# Altium footprint library EC200U-PCB.PcbLib: 36 footprints (part 1 of 3)
Each footprint in its own frame and in the unit in brackets; x right, y up, seen from the top. Pads: shape width x height; smd on the part's side, far side on the other; paste and mask are expansions set on the pad; w line width, h text height; cw(c..) or ccw(c..) is an arc to the next point about the centre after c.
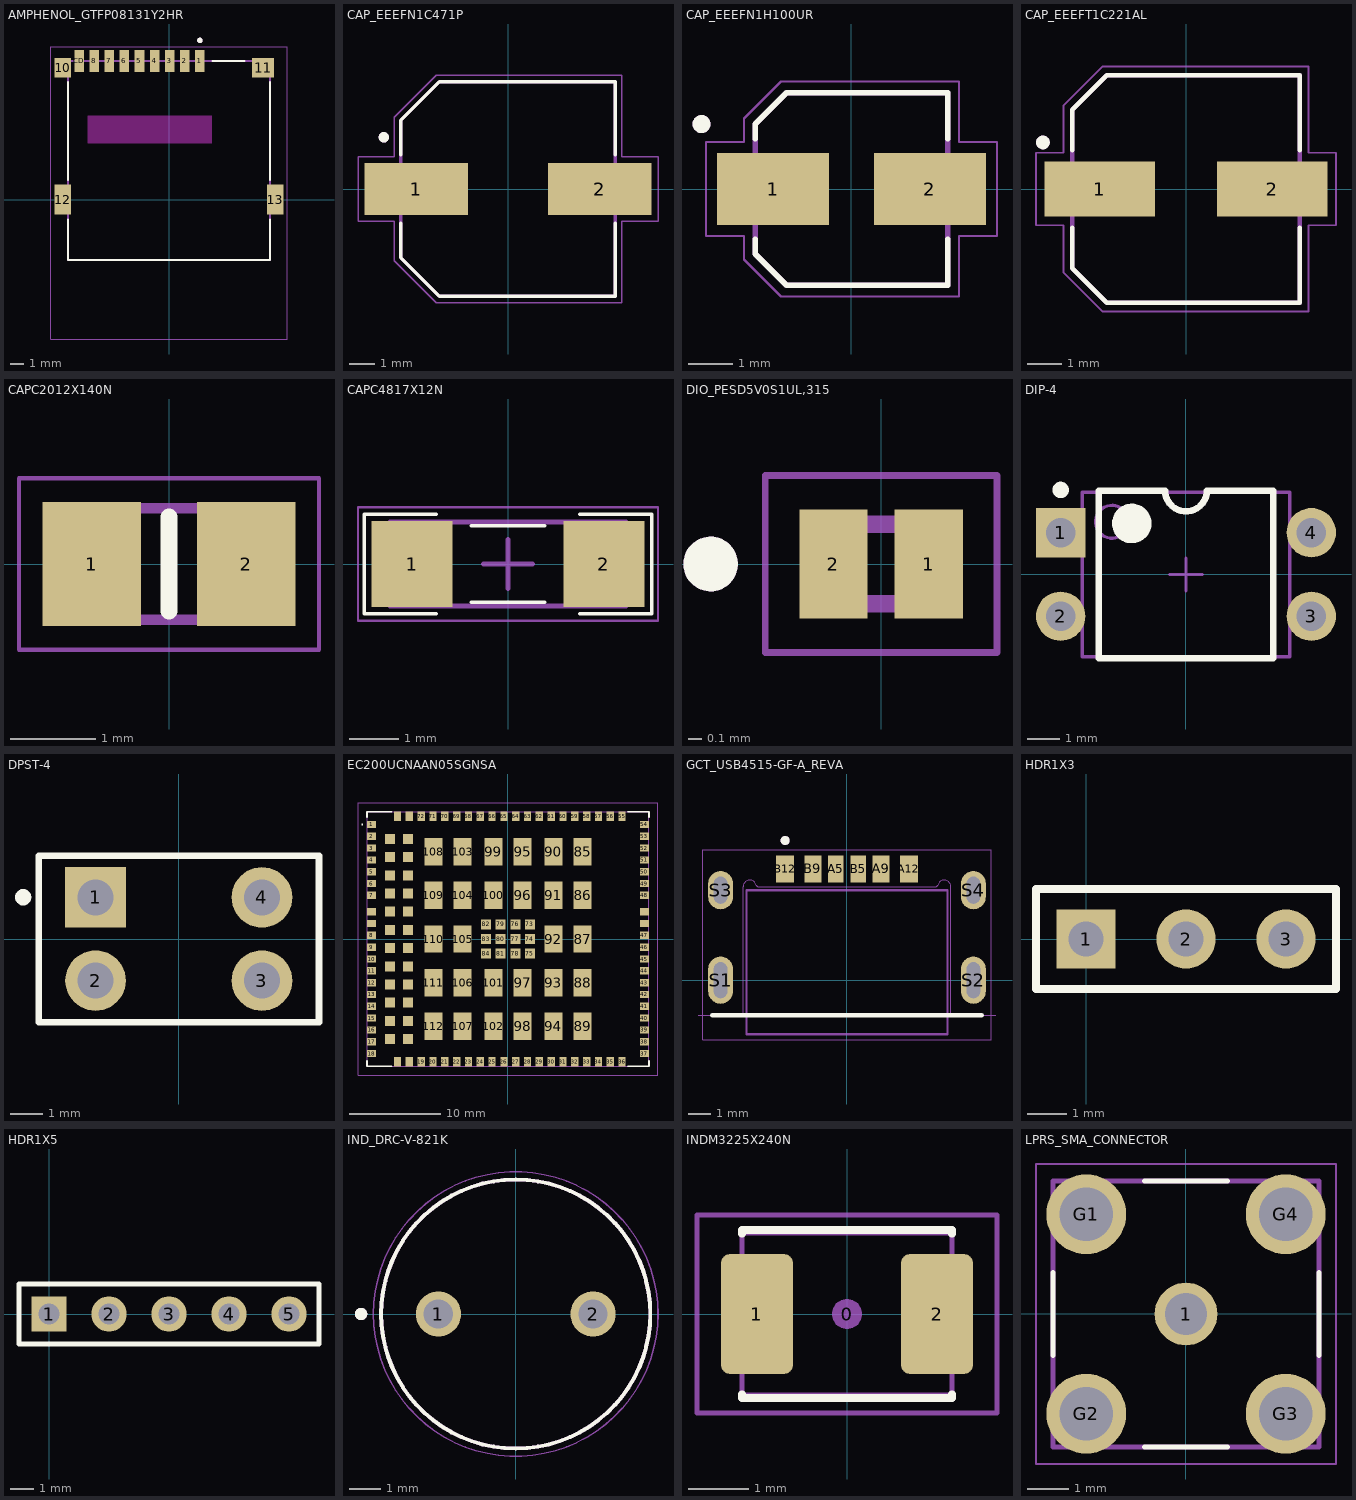
[diagram p0: the footprints below, top view; thin cyan lines are the x and y axes]

## AMPHENOL_GTFP08131Y2HR [mm]
pads (13):
  rect 0.7x1.6 smd: 1(2.25,10.1) 2(1.15,10.1) 3(0.05,10.1) 4(-1.05,10.1) 5(-2.15,10.1) 6(-3.25,10.1) 7(-4.35,10.1) 8(-5.45,10.1) CD(-6.55,10.1)
  rect 1.2x1.4 smd: 10(-7.75,9.6)
  rect 1.6x1.4 smd: 11(6.85,9.6)
  rect 1.2x2.2 smd: 12(-7.75,0) 13(7.75,0)
Top Overlay:
  circle w0.2: c2.25,11.6 r0.1
  lines w0.127: -7.35,-1.42 -7.35,-4.4 7.35,-4.4 7.35,-1.42 ; -7.35,1.42 -7.35,8.58 ; 3.15,10.1 5.5,10.1 ; 7.35,1.42 7.35,8.58
Keep-Out Layer:
  region: 3.1,4.1 -5.9,4.1 -5.9,6.1 3.1,6.1
Mechanical 13:
  circle w0.2: c2.25,11.6 r0.1
  lines w0.127: -7.35,-4.4 -7.35,10.1 7.35,10.1 7.35,-4.4 -7.35,-4.4
Mechanical 15:
  lines w0.05: -8.6,-10.15 8.6,-10.15 8.6,11.15 -8.6,11.15 -8.6,-10.15
3D body "step_temp.STEP": height 1.9, standoff 0, extent -8.05,-4.4 8.05,10.6

## CAP_EEEFN1C471P [mm]
pads (2):
  rect 4x2 smd: 1(-3.55,0) 2(3.55,0)
Top Overlay:
  circle w0.2: c-4.8,2 r0.1
  lines w0.127: -4.15,-1.32 -4.15,-2.65 -2.65,-4.15 4.15,-4.15 4.15,-1.32 ; -4.15,1.32 -4.15,2.65 -2.65,4.15 4.15,4.15 4.15,1.32
Mechanical 13:
  circle w0.2: c-4.8,2 r0.1
  lines w0.127: -4.15,-2.65 -2.65,-4.15 4.15,-4.15 4.15,4.15 -2.65,4.15 -4.15,2.65 -4.15,-2.65
Mechanical 15:
  lines w0.05: -5.8,-1.25 -5.8,1.25 -4.4,1.25 -4.4,2.775 -2.775,4.4 4.4,4.4 4.4,1.25 5.8,1.25 5.8,-1.25 4.4,-1.25 4.4,-4.4 -2.775,-4.4 -4.4,-2.775 -4.4,-1.25 -5.8,-1.25
3D body "step_temp.STEP": height 10.2, standoff 0, extent -4.85,-4.15 4.85,4.15

## CAP_EEEFN1H100UR [mm]
pads (2):
  rect 2.5x1.6 smd: 1(-1.75,0) 2(1.75,0)
Top Overlay:
  circle w0.2: c-3.35,1.45 r0.1
  lines w0.127: -2.15,-1.12 -2.15,-1.45 -1.45,-2.15 2.15,-2.15 2.15,-1.12 ; -2.15,1.12 -2.15,1.45 -1.45,2.15 2.15,2.15 2.15,1.12
Mechanical 13:
  circle w0.2: c-3.35,1.45 r0.1
  lines w0.127: -2.15,-1.45 -1.45,-2.15 2.15,-2.15 2.15,2.15 -1.45,2.15 -2.15,1.45 -2.15,-1.45
Mechanical 15:
  lines w0.05: -3.25,-1.05 -3.25,1.05 -2.4,1.05 -2.4,1.575 -1.575,2.4 2.4,2.4 2.4,1.05 3.25,1.05 3.25,-1.05 2.4,-1.05 2.4,-2.4 -1.575,-2.4 -2.4,-1.575 -2.4,-1.05 -3.25,-1.05
3D body "step_temp.STEP": height 5.3, standoff -0.5, extent -2.5,-2.15 2.5,2.15

## CAP_EEEFT1C221AL [mm]
pads (2):
  rect 3.2x1.6 smd: 1(-2.5,0) 2(2.5,0)
Top Overlay:
  circle w0.2: c-4.15,1.35 r0.1
  lines w0.127: -3.3,-1.12 -3.3,-2.3 -2.3,-3.3 3.3,-3.3 3.3,-1.12 ; -3.3,1.12 -3.3,2.3 -2.3,3.3 3.3,3.3 3.3,1.12
Mechanical 13:
  circle w0.2: c-4.15,1.35 r0.1
  lines w0.127: -3.3,-2.3 -2.3,-3.3 3.3,-3.3 3.3,3.3 -2.3,3.3 -3.3,2.3 -3.3,-2.3
Mechanical 15:
  lines w0.05: -4.35,-1.05 -4.35,1.05 -3.55,1.05 -3.55,2.425 -2.425,3.55 3.55,3.55 3.55,1.05 4.35,1.05 4.35,-1.05 3.55,-1.05 3.55,-3.55 -2.425,-3.55 -3.55,-2.425 -3.55,-1.05 -4.35,-1.05
3D body "step_temp.STEP": height 5.8, standoff 0, extent -3.65,-3.3 3.65,3.3

## CAPC2012X140N [mm]
pads (2):
  rect 1.15x1.45 smd: 1(-0.9,0) 2(0.9,0)
Top Overlay:
  lines w0.2: 0,-0.55 0,0.55
Mechanical 13:
  region: -0.5,-0.65 -1,-0.65 -1,0.65 -0.5,0.65
  region: 1,-0.65 0.5,-0.65 0.5,0.65 1,0.65
  lines w0.127: -1,-0.65 1,-0.65 1,0.65 -1,0.65 -1,-0.65
Mechanical 15:
  lines w0.05: -1.75,-1 1.75,-1 1.75,1 -1.75,1 -1.75,-1

## CAPC4817X12N [mm]
pads (2):
  rect 1.65x1.75 smd: 1(-1.95,0) 2(1.95,0)
Top Overlay:
  lines w0.07: -1.46,-1.016 -2.921,-1.016 -2.921,1.016 -1.46,1.016 ; -0.75,-0.775 0.75,-0.775 ; -0.75,0.775 0.75,0.775 ; 1.46,-1.016 2.921,-1.016 2.921,1.016 1.46,1.016
Mechanical 13:
  lines w0.1: -2.4,-0.85 2.4,-0.85 2.4,0.85 -2.4,0.85 -2.4,-0.85
Mechanical 15:
  lines w0.05: -3.05,-1.15 3.05,-1.15 3.05,1.15 -3.05,1.15 -3.05,-1.15
  lines w0.1: -0.5,0 0.5,0 ; 0,-0.5 0,0.5
3D body "SW3dPS-1206 SMD Capacitor.STEP": height 1, standoff 0, extent -1.6,-0.8 1.6,0.8

## DIO_PESD5V0S1UL,315 [mm]
pads (2):
  rect 0.5x0.8 smd paste-0.1 mask+0: 1(0.35,0) 2(-0.35,0)
Top Overlay:
  circle w0.2: c-1.25,0 r0.1
Top Solder:
  drawing of 2 lines, arcs and shapes, not listed
Mechanical 13:
  circle w0.2: c-1.25,0 r0.1
  lines w0.127: -0.493,-0.293 -0.493,0.293 0.492,0.293 0.492,-0.293 -0.493,-0.293
Mechanical 15:
  lines w0.05: -0.85,-0.65 -0.85,0.65 0.85,0.65 0.85,-0.65 -0.85,-0.65
3D body "step_temp.STEP": height 0.5, standoff 0, extent -0.493,-0.292 0.493,0.292

## DIP-4 [mm]
pads (4):
  rect 1.5x1.5 hole 0.9: 1(-3.81,1.27)
  round 1.5 hole 0.9: 2(-3.81,-1.27) 3(3.81,-1.27) 4(3.81,1.27)
Top Overlay:
  circle w0.25: c-3.81,2.57 r0.125
  circle w0.6: c-1.65,1.55 r0.3
  lines w0.2: -2.65,-2.55 -2.65,2.55 -0.635,2.55 ccw(c0,2.55) 0.635,2.55 2.65,2.55 2.65,-2.55 -2.65,-2.55
Mechanical 13:
  circle w0.1: c-2.25,1.6 r0.5
  lines w0.1: -3.15,-2.5 -3.15,2.5 3.15,2.5 3.15,-2.5 -3.15,-2.5
Mechanical 15:
  lines w0.1: -0.5,0 0.5,0 ; 0,-0.5 0,0.5
3D body: height 5.6, standoff 0, extent -3.15,-2.5 3.15,2.5

## DPST-4 [mm]
pads (4):
  rect 1.85x1.85 hole 1.1: 1(-2.54,1.27)
  round 1.85 hole 1.1: 2(-2.54,-1.27) 3(2.54,-1.27) 4(2.54,1.27)
Top Overlay:
  circle w0.25: c-4.751,1.274 r0.125
  lines w0.2: -4.28,-2.54 4.28,-2.54 4.28,2.54 -4.28,2.54 -4.28,-2.54

## EC200UCNAAN05SGNSA [mm]
pads (144):
  rect 1x0.8 smd: 1(-15,12.6) 2(-15,11.3) 3(-15,10) 4(-15,8.7) 5(-15,7.4) 6(-15,6.1) 7(-15,4.8) 8(-15,0.4) 9(-15,-0.9) 10(-15,-2.2) 11(-15,-3.5) 12(-15,-4.8) 13(-15,-6.1) 14(-15,-7.4) 15(-15,-8.7) 16(-15,-10) 17(-15,-11.3) 18(-15,-12.6) 37(15,-12.6) 38(15,-11.3) 39(15,-10) 40(15,-8.7) 41(15,-7.4) 42(15,-6.1) 43(15,-4.8) 44(15,-3.5) 45(15,-2.2) 46(15,-0.9) 47(15,0.4) 48(15,4.8) 49(15,6.1) 50(15,7.4) 51(15,8.7) 52(15,10) 53(15,11.3) 54(15,12.6) 141(-15,3) 142(-15,1.7) 143(15,1.7) 144(15,3)
  rect 0.8x1 smd: 19(-9.55,-13.5) 20(-8.25,-13.5) 21(-6.95,-13.5) 22(-5.65,-13.5) 23(-4.35,-13.5) 24(-3.05,-13.5) 25(-1.75,-13.5) 26(-0.45,-13.5) 27(0.85,-13.5) 28(2.15,-13.5) 29(3.45,-13.5) 30(4.75,-13.5) 31(6.05,-13.5) 32(7.35,-13.5) 33(8.65,-13.5) 34(9.95,-13.5) 35(11.25,-13.5) 36(12.55,-13.5) 55(12.55,13.5) 56(11.25,13.5) 57(9.95,13.5) 58(8.65,13.5) 59(7.35,13.5) 60(6.05,13.5) 61(4.75,13.5) 62(3.45,13.5) 63(2.15,13.5) 64(0.85,13.5) 65(-0.45,13.5) 66(-1.75,13.5) 67(-3.05,13.5) 68(-4.35,13.5) 69(-5.65,13.5) 70(-6.95,13.5) 71(-8.25,13.5) 72(-9.55,13.5) 113(-10.85,13.5) 114(-12.15,13.5) 115(-10.85,-13.5) 116(-12.15,-13.5)
  rect 1.1x1.1 smd: 73(2.4,1.6) 74(2.4,0) 75(2.4,-1.6) 76(0.8,1.6) 77(0.8,0) 78(0.8,-1.6) 79(-0.8,1.6) 80(-0.8,0) 81(-0.8,-1.6) 82(-2.4,1.6) 83(-2.4,0) 84(-2.4,-1.6) 117(-11,11) 118(-11,9) 119(-11,7) 120(-11,5) 121(-11,3) 122(-11,1) 123(-11,-1) 124(-11,-3) 125(-11,-5) 126(-11,-7) 127(-11,-9) 128(-11,-11) 129(-13,11) 130(-13,9) 131(-13,7) 132(-13,5) 133(-13,3) 134(-13,1) 135(-13,-1) 136(-13,-3) 137(-13,-5) 138(-13,-7) 139(-13,-9) 140(-13,-11)
  rect 2x3 smd: 85(8.2,9.6) 86(8.2,4.8) 87(8.2,0) 88(8.2,-4.8) 89(8.2,-9.6) 90(5,9.6) 91(5,4.8) 92(5,0) 93(5,-4.8) 94(5,-9.6) 95(1.6,9.6) 96(1.6,4.8) 97(1.6,-4.8) 98(1.6,-9.6) 99(-1.6,9.6) 100(-1.6,4.8) 101(-1.6,-4.8) 102(-1.6,-9.6) 103(-5,9.6) 104(-5,4.8) 105(-5,0) 106(-5,-4.8) 107(-5,-9.6) 108(-8.2,9.6) 109(-8.2,4.8) 110(-8.2,0) 111(-8.2,-4.8) 112(-8.2,-9.6)
Top Overlay:
  lines w0.1: -16.1,12.6 cw(c-16.05,12.6) -16,12.6 cw(c-16.05,12.6) -16.1,12.6
  lines w0.2: -15.5,-13.4 -15.5,-14 -12.8,-14 ; -15.5,13.4 -15.5,14 -12.8,14 ; 13.2,-14 15.5,-14 15.5,-13.4 ; 13.2,14 15.5,14 15.5,13.4
Mechanical 13:
  lines w0.1: -15.5,-14 15.5,-14 15.5,14 -15.5,14 -15.5,-14
Mechanical 15:
  lines w0.1: -16.5,-15 -16.5,15 16.5,15 16.5,-15 -16.5,-15
3D body "EC200UCNAA-N05-SGNSA.stp": height 2.7, standoff 0, extent -15.5,-14 15.5,14

## GCT_USB4515-GF-A_REVA [mm]
pads (10):
  rect 0.7x1.2 smd: A5(-0.5,4.95) B5(0.5,4.95)
  rect 0.76x1.2 smd: A9(1.52,4.95) B9(-1.52,4.95)
  rect 0.8x1.2 smd: A12(2.75,4.95) B12(-2.75,4.95)
  oval 1.1x2.1 hole 0.6 slot 1.6 at 90 deg: S1(-5.62,0) S2(5.62,0)
  oval 1.1x1.7 hole 0.6 slot 1.2 at 90 deg: S3(-5.62,4) S4(5.62,4)
Top Overlay:
  circle w0.2: c-2.75,6.21 r0.1
  lines w0.2: -6,-1.55 6,-1.55
Mechanical 1:
  lines w0: -6.62,-1.55 -4.62,-1.55 -4.62,4.15 cw(c-4.32,4.15) -4.029,4.228 ; -4.03,4.23 ccw(c-3.936,4.244) -3.95,4.15 3.95,4.15 ccw(c3.936,4.244) 4.03,4.23 ; 4.029,4.228 cw(c4.32,4.15) 4.62,4.15 4.62,-1.55 6.62,-1.55
Mechanical 13:
  circle w0.2: c-2.75,6.21 r0.1
  lines w0.1: -6,-1.55 6,-1.55 ; -4.47,-2.4 -4.47,4 4.47,4 4.47,-2.4 -4.47,-2.4
  text "PCB EDGE" at 6.64,-1.4 h0.41
Mechanical 15:
  lines w0.05: -6.42,-2.65 -6.42,5.8 6.42,5.8 6.42,-2.65 -6.42,-2.65
3D body "step_temp.STEP": height 1.56, standoff -1.6, extent -5.77,-2.4 5.77,5.1

## HDR1X3 [mm]
pads (3):
  rect 1.5x1.5 hole 0.9: 1(0,0)
  round 1.5 hole 0.9: 2(2.54,0) 3(5.08,0)
Top Overlay:
  lines w0.2: -1.27,-1.27 -1.27,1.27 6.35,1.27 6.35,-1.27 -1.27,-1.27

## HDR1X5 [mm]
pads (5):
  rect 1.5x1.5 hole 0.9: 1(0,0)
  round 1.5 hole 0.9: 2(2.54,0) 3(5.08,0) 4(7.62,0) 5(10.16,0)
Top Overlay:
  lines w0.2: -1.27,-1.27 -1.27,1.27 11.43,1.27 11.43,-1.27 -1.27,-1.27

## IND_DRC-V-821K [mm]
pads (2):
  round 1.458 hole 0.95: 1(-2.5,0) 2(2.5,0)
Top Overlay:
  circle w0.127: c0,0 r4.35
  circle w0.2: c-5,0 r0.1
Mechanical 13:
  circle w0.127: c0,0 r4.35
  circle w0.2: c-5,0 r0.1
Mechanical 15:
  circle w0.05: c0,0 r4.6
3D body "step_temp.STEP": height 12.5, standoff -6, extent -4.35,-4.35 4.35,4.35

## INDM3225X240N [mm]
pads (3):
  round 0.508 on Mech15: 0(0,0)
  rrect25% 1.2x2 smd: 1(-1.5,0) 2(1.5,0)
Top Overlay:
  lines w0.127: -1.75,-1.338 -1.75,-1.4 1.75,-1.4 1.75,-1.338 ; -1.75,1.338 -1.75,1.4 1.75,1.4 1.75,1.338
Mechanical 13:
  lines w0.076: -1.75,-1.35 -1.75,1.35 1.75,1.35 1.75,-1.35 -1.75,-1.35
Mechanical 15:
  lines w0.076: -2.5,-1.65 -2.5,1.65 2.5,1.65 2.5,-1.65 -2.5,-1.65
3D body "INDM3225X240N.STEP": height 2.4, standoff 0, extent -1.79,-1.35 1.79,1.35

## LPRS_SMA_CONNECTOR [mm]
pads (5):
  round 1.508 hole 1: 1(0,0)
  round 1.92 hole 1.28: G1(-2.4,2.4) G2(-2.4,-2.4) G3(2.4,-2.4) G4(2.4,2.4)
Top Overlay:
  lines w0.127: -3.2,-1 -3.2,1 ; -1,-3.2 1,-3.2 ; -1,3.2 1,3.2 ; 3.2,-1 3.2,1
Mechanical 13:
  lines w0.127: -3.2,-3.2 -3.2,3.2 3.2,3.2 3.2,-3.2 -3.2,-3.2
Mechanical 15:
  lines w0.05: -3.61,-3.61 -3.61,3.61 3.61,3.61 3.61,-3.61 -3.61,-3.61
3D body "step_temp.STEP": height 13.6, standoff 0, extent -3.25,-3.25 3.25,3.25